# Altium footprint library LED's.PcbLib: 9 footprints
Each footprint in its own frame and in the unit in brackets; x right, y up, seen from the top. Pads: shape width x height; smd on the part's side, far side on the other; paste and mask are expansions set on the pad; w line width, h text height; cw(c..) or ccw(c..) is an arc to the next point about the centre after c.
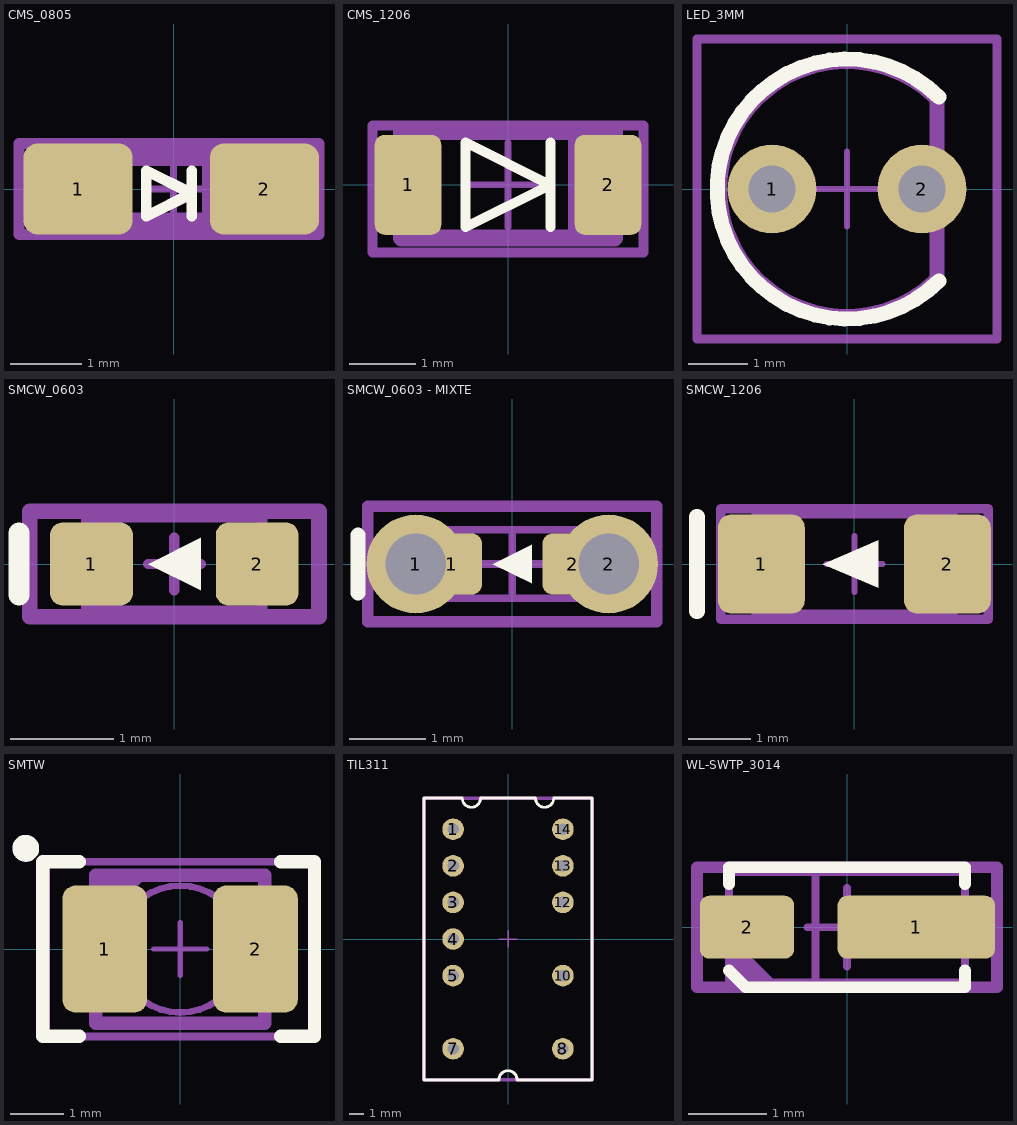
[diagram p0: the footprints below, top view; thin cyan lines are the x and y axes]

## CMS_0805 [mil]
pads (2):
  rrect30% 60x50 smd: 1(-52.5,0) 2(50,0)
Top Overlay:
  lines w5.91: 10,-15 10,10 ; -15,-15 -15,10 10,-2.5 -15,-15
Mechanical 13:
  region: 40.6,17.68 15.75,17.68 15.75,-17.75 40.6,-17.75
  lines w10: -40.6,-18 40.6,-18 40.6,17.68 -40.6,17.68 -40.6,-18
  text "K" at 51.18,-7.87 h23.62
Mechanical 15:
  lines w3.94: -15,0 15,0 ; 0,-15 0,15
  lines w5.91: -85,-25 80,-25 80,25 -85,25 -85,-25
Mechanical 17:
  text ".Designator" at -30,-10 h31.5
3D body "LED_0805.step": height 33.45, standoff 0.23, extent -40.6,-18 40.6,17.68

## CMS_1206 [mm]
pads (2):
  rrect30% 1x1.5 smd: 1(-1.5,0) 2(1.5,0)
Top Overlay:
  lines w0.15: 0.635,-0.635 0.635,0.635 ; -0.635,-0.635 0.635,0 -0.635,0.635 -0.635,-0.635
Mechanical 13:
  region: 1.6,0.8 0.9,0.8 0.9,-0.8 1.6,-0.8
  lines w0.254: -1.6,-0.8 -1.6,0.8 1.6,0.8 1.6,-0.8 -1.6,-0.8
  text "K" at 1.8,-0.3 h1
Mechanical 15:
  lines w0.1: -0.635,0 0.635,0 ; 0,-0.635 0,0.635
  lines w0.15: -2.032,-1.016 -2.032,0.889 2.032,0.889 2.032,-1.016 -2.032,-1.016
Mechanical 17:
  text ".Designator" at -1.27,-0.508 h1.5
3D body "LED 1206.step": height 0.58, standoff 0, extent -1.6,-0.8 1.6,0.8

## LED_3MM [mm]
pads (2):
  round 1.5 hole 0.8: 1(-1.27,0) 2(1.27,0)
Top Overlay:
  lines w0.254: 1.556,-1.556 cw(c0,0) 1.556,1.556
Mechanical 13:
  lines w0.254: 1.524,-1.524 cw(c-0.002,0) 1.524,1.524 1.524,-1.524
Mechanical 15:
  lines w0.1: -0.635,0 0.635,0 ; 0,-0.635 0,0.635
  lines w0.15: -2.54,-2.54 -2.54,2.54 2.54,2.54 2.54,-2.54 -2.54,-2.54
Mechanical 17:
  text ".Designator" at -0.402,-0.202 h1.5
3D body "LED DIP 3MM.step": height 6, standoff -2.5, extent -1.902,-1.902 1.598,1.898

## SMCW_0603 [mm] "Chip LED, 2-Leads, Body 1.6x0.8mm, IPC Medium Density"
height 0.68
pads (2):
  rrect30% 0.8x0.8 smd: 1(-0.8,0) 2(0.8,0)
Top Overlay:
  region: -0.254,0 0.254,0.254 0.254,-0.254
  lines w0.2: -1.5,-0.3 -1.5,0.3
Mechanical 13:
  rectangle: -0.85,-0.45 -0.498,0.45
  lines w0.1: -0.85,-0.45 -0.85,0.45 0.85,0.45 0.85,-0.45 -0.85,-0.45
  text "K" at -1.5,-0.3 h1
Mechanical 15:
  lines w0.1: -0.254,0 0.254,0 ; 0,-0.254 0,0.254
  lines w0.15: -1.397,-0.508 -1.397,0.508 1.397,0.508 1.397,-0.508 -1.397,-0.508
Mechanical 17:
  text ".Designator" at -0.7,-0.3 h1
3D body "WL-SMCW_0603_LED.stp": height 0.7, standoff 0, extent -0.8,-0.4 0.8,0.4

## SMCW_0603 - MIXTE [mm] "Chip LED, 2-Leads or Standard 3mm led"
height 0.68
pads (4):
  round 1.3 hole 0.8: 1(-1.27,0) 2(1.27,0)
  rrect30% 0.8x0.8 smd: 1(-0.8,0) 2(0.8,0)
Top Overlay:
  region: -0.254,0 0.254,0.254 0.254,-0.254
  lines w0.2: -2.032,-0.381 -2.032,0.381
Mechanical 13:
  rectangle: -0.852,-0.45 -0.5,0.45
  lines w0.1: -0.85,-0.45 -0.85,0.45 0.85,0.45 0.85,-0.45 -0.85,-0.45
  text "K" at -1.5,-0.3 h1
Mechanical 15:
  lines w0.1: -0.45,0 0.45,0 ; 0,-0.45 0,0.45
  lines w0.15: -1.905,-0.762 -1.905,0.762 1.905,0.762 1.905,-0.762 -1.905,-0.762
Mechanical 17:
  text ".Designator" at -0.6,-0.3 h1
3D body "WL-SMCW_0603_LED.stp": height 0.7, standoff 0, extent -0.8,-0.4 0.8,0.4

## SMCW_1206 [mm]
height 0.78
pads (2):
  rrect30% 1.4x1.6 smd: 1(-1.5,0) 2(1.5,0)
Top Overlay:
  region: -0.508,0 0.381,0.381 0.381,-0.381
  lines w0.254: -2.54,-0.762 -2.54,0.762
Mechanical 13:
  region: -1.6,0.8 -1,0.8 -1,-0.8 -1.6,-0.8 -1.6,-0.375 -1.527,-0.368 -1.392,-0.312 -1.289,-0.209 -1.233,-0.074 -1.226,-0.001 -1.226,0 -1.233,0.073 -1.289,0.208 -1.392,0.311 -1.527,0.367 -1.6,0.375
  lines w0.1: -1,-0.8 -1,0.8 ; 1,-0.8 1,0.8
  lines w0.127: -1.6,-0.8 1.6,-0.8 1.6,-0.375 cw(c1.6,0) 1.6,0.375 1.6,0.8 -1.6,0.8 -1.6,0.375 cw(c-1.6,0) -1.6,-0.375 -1.6,-0.8
  text "K" at -2.3,-0.3 h1
Mechanical 15:
  lines w0.1: -0.45,0 0.45,0 ; 0,-0.45 0,0.45
  lines w0.15: -2.159,-0.889 2.159,-0.889 2.159,0.889 -2.159,0.889 -2.159,-0.889
Mechanical 17:
  text ".Designator" at -0.7,-0.5 h1.5
3D body: height 0.78, standoff 0, extent -0.999,-0.699 0.999,0.699
3D body: height 0.28, standoff 0, extent -1.601,-0.701 1.601,0.701

## SMTW [mm]
pads (2):
  rrect30% 1.6x2.4 smd: 1(-1.425,0) 2(1.425,0)
Top Overlay:
  circle w0.254: c-2.921,1.905 r0.127
  lines w0.254: -1.905,-1.651 -2.6,-1.651 -2.6,1.651 -1.905,1.651 ; 1.905,-1.651 2.54,-1.651 2.54,1.651 1.905,1.651
Mechanical 13:
  circle w0.127: c0,0 r1.2
  region: -1.6,1.4 -1.6,0.4 -0.6,1.4
  lines w0.254: -1.6,0.635 -1.6,0.689 ; 1.6,-1.4 -1.6,-1.4 -1.6,1.4 1.6,1.4 1.6,-1.324
  text "K" at -2.4,-0.3 h1
Mechanical 15:
  lines w0.1: -0.5,0 0.5,0 ; 0,-0.5 0,0.5
  lines w0.15: -2.54,-1.651 2.54,-1.651 2.54,1.651 -2.54,1.651 -2.54,-1.651
Mechanical 17:
  text ".Designator" at -0.4,-0.2 h1
3D body: height 2.1, standoff 0.15, extent -1.727,-1.527 1.727,1.527

## TIL311 [mm]
pads (11):
  round 1.5 hole 0.8: 1(-3.81,7.62) 2(-3.81,5.08) 3(-3.81,2.54) 4(-3.81,0) 5(-3.81,-2.54) 7(-3.81,-7.62) 8(3.81,-7.62) 10(3.81,-2.54) 12(3.81,2.54) 13(3.81,5.08) 14(3.81,7.62)
Top Overlay:
  lines w0.2: 5.715,-9.779 0.635,-9.779 ccw(c0,-9.779) -0.635,-9.779 -5.842,-9.779 -5.842,9.779 -3.175,9.779 ccw(c-2.54,9.779) -1.905,9.779 1.905,9.779 ccw(c2.54,9.779) 3.175,9.779 5.842,9.779 5.842,-9.779
Mechanical 13:
  lines w0.254: -5.842,-9.779 5.842,-9.779 5.842,9.779 -5.842,9.779 -5.842,-9.779
Mechanical 15:
  lines w0.1: -0.635,0 0.635,0 ; 0,-0.58 0,0.62
  lines w0.15: -5.842,-9.779 5.842,-9.779 5.842,9.779 -5.842,9.779 -5.842,-9.779
Mechanical 17:
  text ".Designator" at -0.4,-0.2 h2
3D body: height 3, standoff 2, extent -5.842,-9.779 5.842,9.779

## WL-SWTP_3014 [mm] "SMD White Top view PLCC, body 3x1.4"
height 0.8
pads (2):
  rrect30% 2x0.8 smd: 1(0.88,0)
  rrect30% 1.2x0.8 smd: 2(-1.27,0)
Top Overlay:
  lines w0.15: -1.5,-0.55 -1.288,-0.762 1.5,-0.762 1.5,-0.55 ; -1.5,0.55 -1.5,0.762 1.5,0.762 1.5,0.55
Mechanical 13:
  region: -1.5,-0.7 -0.9,-0.7 -1.5,-0.1
  region: -1.7,-1.3
  lines w0.1: -0.4,-0.7 -0.4,0.7 ; -1.5,-0.7 -1.5,0.7 1.5,0.7 1.5,-0.7 -1.5,-0.7
  text "K" at 0.8,-0.3 h1
Mechanical 15:
  lines w0.1: -0.5,0 0.5,0 ; 0,-0.5 0,0.5
  lines w0.15: -1.905,-0.762 1.905,-0.762 1.905,0.762 -1.905,0.762 -1.905,-0.762
Mechanical 17:
  text ".Designator" at -0.4,-0.2 h1
3D body "WL-SWTP-158301xxx.stp": height 0.85, standoff 0.05, extent -1.5,-0.7 1.5,0.7